# EAGLE library part LTC3786 (library PowerProducts)
Low IQ Synchronous Boost Controller
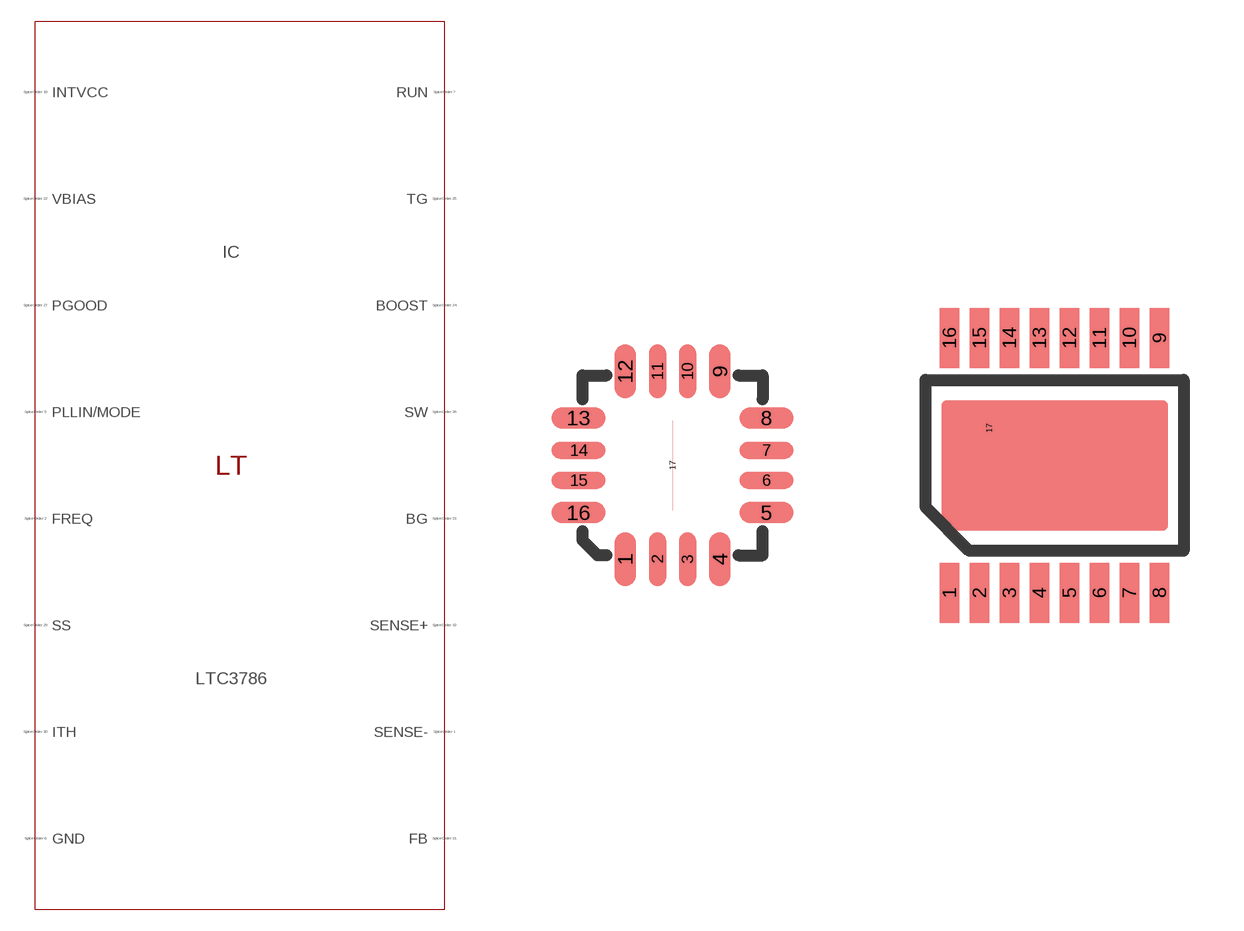
[diagram p327: symbol with the pads of QFN16(UD); footprints QFN16(UD), MSOP16(MSE)]

Designator prefix IC

## LTC3786UD (SPICEMODEL: LTC3786.sub; SPICEPREFIX: X; VALUE2: LTC3786)  [QFN16(UD)]
1  SW  pas
2  PGOOD  pas
3  FB  pas
4  SENSE+  pas
5  SENSE-  pas
6  ITH  pas
7  SS  pas
8  PLLIN/MODE  pas
9  FREQ  pas
10  RUN  pas
11  GND  pas
12  BG  pas
13  INTVCC  pas
14  VBIAS  pas
15  BOOST  pas
16  TG  pas
17  GND  pas

## LTC3786 (SPICEMODEL: LTC3786.sub; SPICEPREFIX: X; VALUE2: LTC3786)  [MSOP16(MSE)]
1  FB  pas
2  SENSE+  pas
3  SENSE-  pas
4  ITH  pas
5  SS  pas
6  PLLIN/MODE  pas
7  FREQ  pas
8  RUN  pas
9  GND  pas
10  BG  pas
11  INTVCC  pas
12  VBIAS  pas
13  BOOST  pas
14  TG  pas
15  SW  pas
16  PGOOD  pas
17  GND  pas

## Footprint QFN16(UD) (pad centres in mm)
Package generated from: QFN16(UD).asc (!PADS-POWERPCB-V9.3-BASIC! DESIGN DATABASE ASCII FILE 1.0) with :import-pads-powerpcb-v5.ulp Version 1.0.1 at 04.10.2012 14:11:23
smd 0.54 x 1.35: 1 -1.185,-2.348; 4 1.185,-2.348; 9 1.185,2.348; 12 -1.185,2.348
smd 0.42 x 1.35: 2 -0.375,-2.348; 3 0.375,-2.348; 10 0.375,2.348; 11 -0.375,2.348
smd 1.35 x 0.54: 5 2.348,-1.185; 8 2.348,1.185; 13 -2.348,1.185; 16 -2.348,-1.185
smd 1.35 x 0.42: 6 2.348,-0.375; 7 2.348,0.375; 14 -2.348,0.375; 15 -2.348,-0.375
smd 0 x 2.25: 17 0,0

## Footprint MSOP16(MSE) (pad centres in mm)
Package generated from: MSOP16(MSE).asc (!PADS-POWERPCB-V9.3-BASIC! DESIGN DATABASE ASCII FILE 1.0) with :import-pads-powerpcb-v5.ulp Version 1.0.1 at 04.10.2012 14:11:19
smd 0.495 x 1.5: 1 -2.625,-3.188; 2 -1.875,-3.188; 3 -1.125,-3.188; 4 -0.375,-3.188; 5 0.375,-3.188; 6 1.125,-3.188; 7 1.875,-3.188; 8 2.625,-3.188; 9 2.625,3.188; 10 1.875,3.188; 11 1.125,3.188; 12 0.375,3.188; 13 -0.375,3.188; 14 -1.125,3.188; 15 -1.875,3.188; 16 -2.625,3.188
smd 0 x 0.525: 17 -1.635,0.93